# Altium footprint library soldeerstation.PcbLib: 22 footprints (part 2 of 2)
Each footprint in its own frame and in the unit in brackets; x right, y up, seen from the top. Pads: shape width x height; smd on the part's side, far side on the other; paste and mask are expansions set on the pad; w line width, h text height; cw(c..) or ccw(c..) is an arc to the next point about the centre after c.
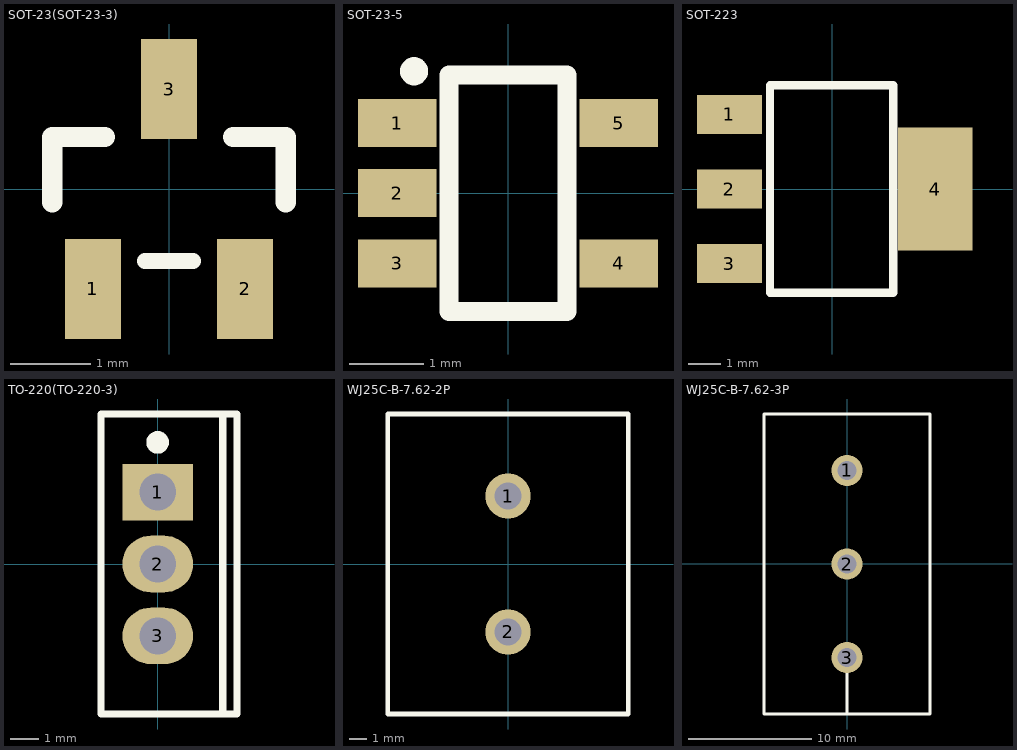
[diagram p1: the footprints below, top view; thin cyan lines are the x and y axes]

## SOT-23(SOT-23-3) [mm]
pads (3):
  rect 0.7x1.25 smd: 1(-0.95,-1.25) 2(0.95,-1.25) 3(0,1.25)
Top Overlay:
  lines w0.2: -0.3,-0.9 0.3,-0.9
  lines w0.254: -1.46,-0.165 -1.46,0.65 -0.8,0.65 ; 1.46,-0.165 1.46,0.65 ; 0.8,0.65 1.46,0.65 ; 0.8,0.65 1.46,0.65 ; 0.8,0.65 1.46,0.65

## SOT-23-5 [mm]
pads (5):
  rect 1.06x0.65 smd: 1(-1.5,0.95) 2(-1.5,0) 3(-1.5,-0.95) 4(1.5,-0.95) 5(1.5,0.95)
Top Overlay:
  circle w0.254: c-1.27,1.651 r0.064
  lines w0.254: -0.8,-1.6 -0.8,1.6 0.8,1.6 0.8,-1.6 -0.8,-1.6

## SOT-223 [mm]
pads (4):
  rect 2x1.2 smd: 1(-3.175,2.3) 2(-3.175,0) 3(-3.175,-2.3)
  rect 2.3x3.8 smd: 4(3.175,0)
Top Overlay:
  lines w0.254: -1.925,-3.2 -1.925,3.2 1.875,3.2 1.875,-3.2 -1.925,-3.2

## TO-220(TO-220-3) [mm]
pads (3):
  rect 2.5x2 hole 1.3: 1(0,2.54)
  oval 2.5x2 hole 1.3: 2(0,0) 3(0,-2.54)
Top Overlay:
  lines w0.254: 2.3,-5.3 2.3,5.3 ; -2,-5.3 2.8,-5.3 2.8,5.3 -2,5.3 -2,-5.3
  lines w0.4: 0.201,4.298 cw(c0.001,4.299) 0.201,4.3

## WJ25C-B-7.62-2P [mil]
pads (2):
  round 100 hole 60: 1(0,150.1) 2(0,-150.1)
Top Overlay:
  lines w10: -265.75,-331.2 265.75,-331.2 265.75,331.2 -265.75,331.2 -265.75,-331.2

## WJ25C-B-7.62-3P [mil]
pads (3):
  round 100 hole 60: 1(0,300.19) 2(0,-0.01) 3(0,-300.19)
Top Overlay:
  lines w10: 0,-481.3 0,-300.2 ; -265.75,-481.3 265.75,-481.3 265.75,-181.1 265.75,481.3 -265.75,481.3 -265.75,-181.1 -265.75,-481.3